# Altium footprint library ad.PcbLib: 129 footprints (part 10 of 12)
Each footprint in its own frame and in the unit in brackets; x right, y up, seen from the top. Pads: shape width x height; smd on the part's side, far side on the other; paste and mask are expansions set on the pad; w line width, h text height; cw(c..) or ccw(c..) is an arc to the next point about the centre after c.
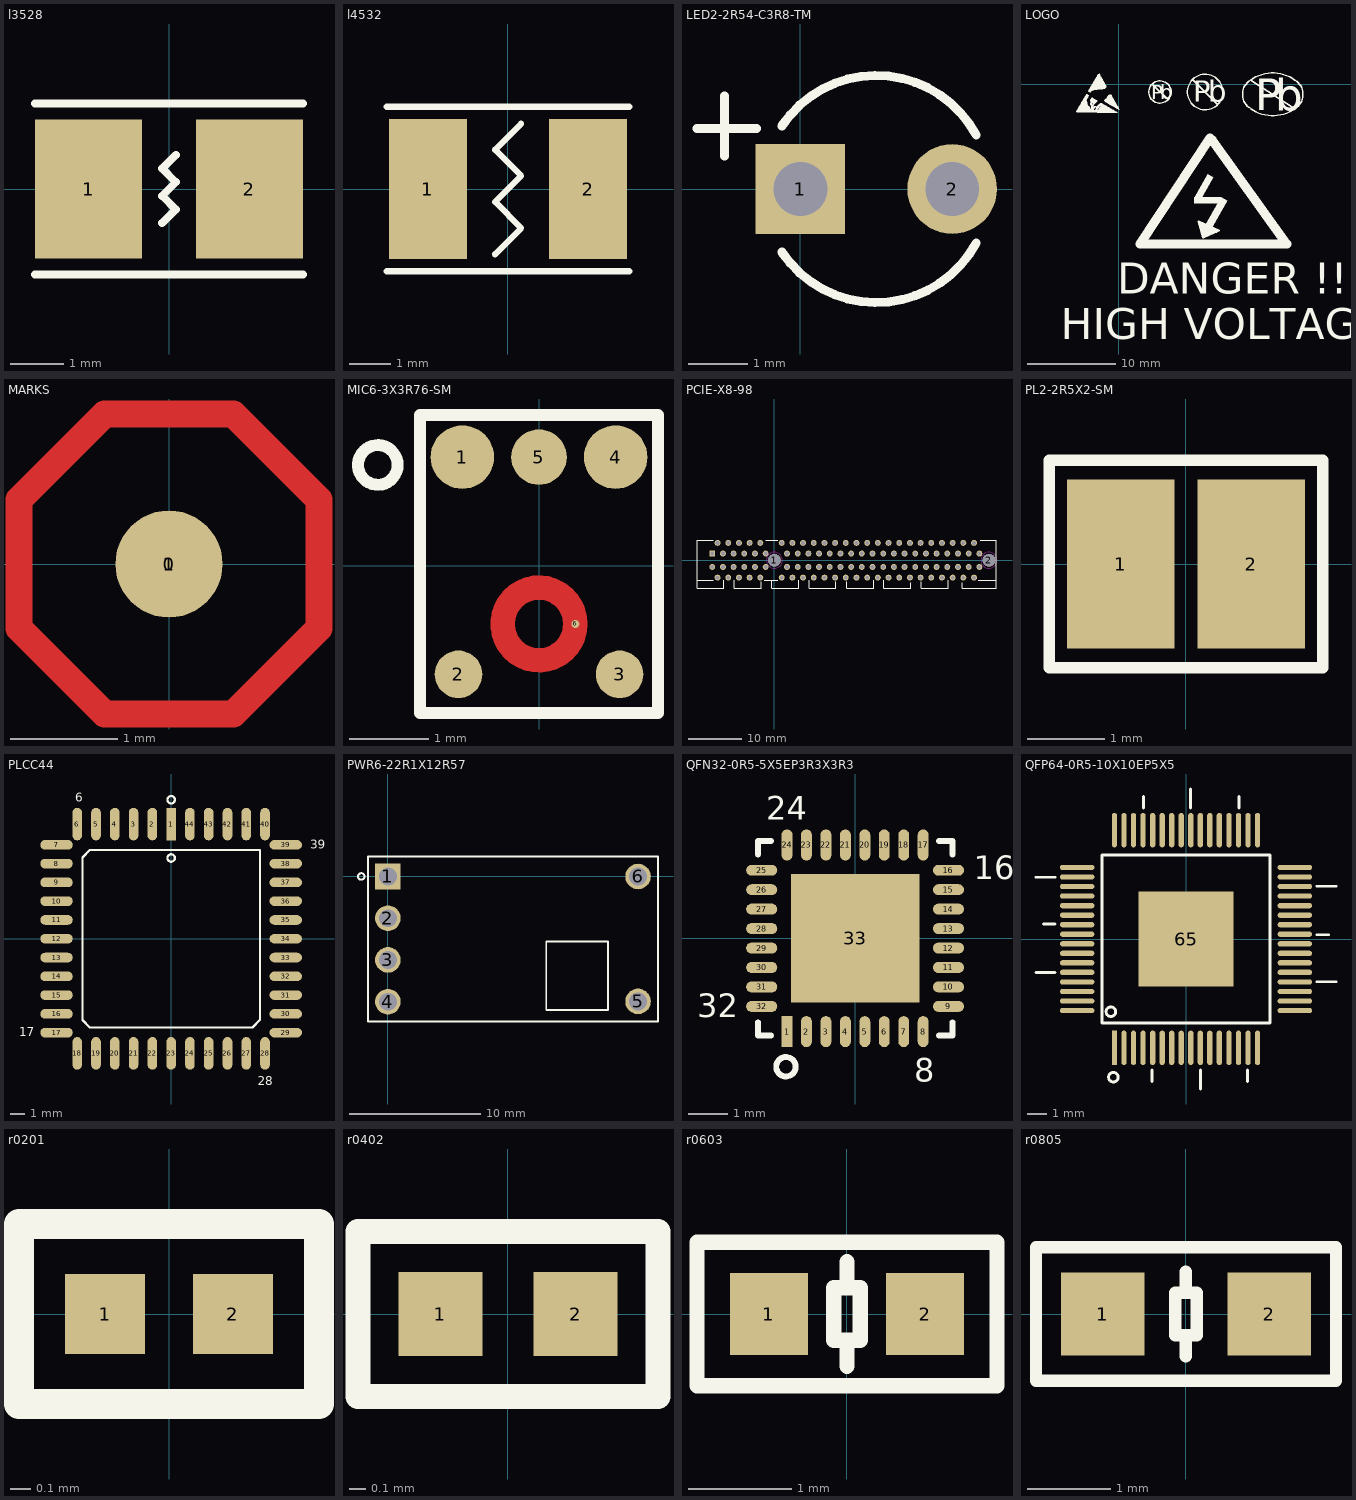
[diagram p9: the footprints below, top view; thin cyan lines are the x and y axes]

## l3528 [mm]
pads (2):
  rect 2x2.6 smd: 1(-1.5,0) 2(1.5,0)
Top Overlay:
  lines w0.15: -2.5,-1.6 2.5,-1.6 ; -2.5,1.6 2.5,1.6 ; -0.127,-0.635 0.127,-0.381 -0.127,-0.127 0.127,0.127 -0.127,0.381 0.127,0.635

## l4532 [mm]
pads (2):
  rect 1.9x3.4 smd: 1(-1.95,0) 2(1.95,0)
Top Overlay:
  lines w0.15: -2.95,-2 2.95,-2 ; -2.95,2 2.95,2 ; -0.316,-1.586 0.319,-0.951 -0.316,-0.316 0.319,0.319 -0.316,0.954 0.319,1.589

## LED2-2R54-C3R8-TM [mm]
pads (2):
  rect 1.5x1.5 hole 0.9: 1(0,0)
  round 1.5 hole 0.9: 2(2.54,0)
Top Overlay:
  lines w0.15: -1.73,1.016 -0.73,1.016 ; -1.27,0.556 -1.27,1.556 ; -0.311,-1.054 ccw(c1.27,0) 2.943,-0.901 ; -0.311,1.054 cw(c1.27,0) 2.943,0.901

## LOGO [mm]
Top Overlay:
  drawing of 850 lines, arcs and shapes, not listed
  text "b" at 4.64,-1.676 h1.6
  text "P" at 3.64,-1.676 h1.6
  text "b" at 10.07,-1.976 h2.38
  text "P" at 8.37,-1.976 h2.38
  text "b" at 4.64,-1.676 h1.6
  text "P" at 3.64,-1.676 h1.6
  text "b" at 10.07,-1.976 h2.38
  text "P" at 8.37,-1.976 h2.38
  text "b" at 17.614,-2.979 h3.58
  text "P" at 15.364,-2.931 h3.58
  text "b" at 17.614,-2.979 h3.58
  text "P" at 15.364,-2.931 h3.58
  text "DANGER !!!" at -0.152,-23.571 h3.5
  text "HIGH VOLTAGE" at -6.502,-28.651 h3.5

## MARKS [mm]
pads (2):
  round 2 on Top Solder: 0(0,0)
  round 1 smd: 1(0,0)
Top Layer:
  lines w0.254: -1.4,-0.6 -1.4,0.6 -0.6,1.4 -0.4,1.4 0.4,1.4 0.6,1.4 1.4,0.6 1.4,-0.6 0.6,-1.4 -0.6,-1.4 -1.4,-0.6

## MIC6-3X3R76-SM [mm]
pads (6):
  round 0.8 smd: 1(-0.967,1.369) 4(0.965,1.369)
  round 0.6 smd: 2(-1.015,-1.368) 3(1.015,-1.368)
  round 0.7 smd: 5(-0.001,1.369)
  round 0.1 smd: 6(0.458,-0.734)
Top Layer:
  circle w0.307: c-0.001,-0.734 r0.459
Top Overlay:
  circle w0.15: c-2.032,1.27 r0.25
  lines w0.15: -1.5,-1.859 -1.5,1.901 1.499,1.901 1.499,-1.859 -1.5,-1.859
Top Paste:
  circle w0.307: c-0.001,-0.734 r0.459
Top Solder:
  circle w0.4: c-0.001,-0.734 r0.459

## PCIE-X8-98 [mm]
pads (100):
  round 2.35 hole 2.35 unplated: 1(0,0) 2(40.15,0)
  rect 1.1x1.1 hole 0.7: A1(-11.65,1.25)
  round 1.1 hole 0.7: A2(-10.65,3.25) A3(-9.65,1.25) A4(-8.65,3.25) A5(-7.65,1.25) A6(-6.65,3.25) A7(-5.65,1.25) A8(-4.65,3.25) A9(-3.65,1.25) A10(-2.65,3.25) A11(-1.65,1.25) A12(1.35,3.25) A13(2.35,1.25) A14(3.35,3.25) A15(4.35,1.25) A16(5.35,3.25) A17(6.35,1.25) A18(7.35,3.25) A19(8.35,1.25) A20(9.35,3.25) A21(10.35,1.25) A22(11.35,3.25) A23(12.35,1.25) A24(13.35,3.25) A25(14.35,1.25) A26(15.35,3.25) A27(16.35,1.25) A28(17.35,3.25) A29(18.35,1.25) A30(19.35,3.25) A31(20.35,1.25) A32(21.35,3.25) A33(22.35,1.25) A34(23.35,3.25) A35(24.35,1.25) A36(25.35,3.25) A37(26.35,1.25) A38(27.35,3.25) A39(28.35,1.25) A40(29.35,3.25) A41(30.35,1.25) A42(31.35,3.25) A43(32.35,1.25) A44(33.35,3.25) A45(34.35,1.25) A46(35.35,3.25) A47(36.35,1.25) A48(37.35,3.25) A49(38.35,1.25) B1(-11.65,-1.25) B2(-10.65,-3.25) B3(-9.65,-1.25) B4(-8.65,-3.25) B5(-7.65,-1.25) B6(-6.65,-3.25) B7(-5.65,-1.25) B8(-4.65,-3.25) B9(-3.65,-1.25) B10(-2.65,-3.25) B11(-1.65,-1.25) B12(1.35,-3.25) B13(2.35,-1.25) B14(3.35,-3.25) B15(4.35,-1.25) B16(5.35,-3.25) B17(6.35,-1.25) B18(7.35,-3.25) B19(8.35,-1.25) B20(9.35,-3.25) B21(10.35,-1.25) B22(11.35,-3.25) B23(12.35,-1.25) B24(13.35,-3.25) B25(14.35,-1.25) B26(15.35,-3.25) B27(16.35,-1.25) B28(17.35,-3.25) B29(18.35,-1.25) B30(19.35,-3.25) B31(20.35,-1.25) B32(21.35,-3.25) B33(22.35,-1.25) B34(23.35,-3.25) B35(24.35,-1.25) B36(25.35,-3.25) B37(26.35,-1.25) B38(27.35,-3.25) B39(28.35,-1.25) B40(29.35,-3.25) B41(30.35,-1.25) B42(31.35,-3.25) B43(32.35,-1.25) B44(33.35,-3.25) B45(34.35,-1.25) B46(35.35,-3.25) B47(36.35,-1.25) B48(37.35,-3.25) B49(38.35,-1.25)
Top Overlay:
  lines w0.15: -11.43,-3.75 -14.5,-3.75 ; -11.43,3.75 -14.5,3.75 -14.5,-3.75 ; -9.5,-3.75 -9.5,-5.2 -14.5,-5.2 -14.5,-3.75 ; -7.507,-3.75 -7.507,-5.2 -2.507,-5.2 -2.507,-4.064 ; -1.905,-3.75 0.635,-3.75 ; -1.651,3.75 0.635,3.75 ; -0.492,-3.75 -0.492,-5.2 4.508,-5.2 4.508,-3.75 ; 6.477,-3.75 6.477,-5.2 11.477,-5.2 11.477,-4.064 ; 13.538,-4.064 13.538,-5.2 18.538,-5.2 18.538,-3.75 ; 20.5,-3.75 20.5,-5.2 25.5,-5.2 25.5,-4.191 ; 27.5,-4.064 27.5,-5.2 32.5,-5.2 32.5,-3.75 ; 35.179,-4.191 35.179,-5.2 41.5,-5.2 41.5,-3.75 ; 38.1,-3.75 41.5,-3.75 ; 38.481,3.75 41.5,3.75 41.5,-3.75
Bottom Overlay:
  text "B10" at -0.254,-3.429 h0.6
  text "B11" at 0.381,-2.159 h0.6
  text "B2" at -11.557,-3.429 h0.6
  text "B1" at -12.7,-1.524 h0.6
  text "B48" at 40.005,-3.429 h0.6
  text "B49" at 40.513,-2.413 h0.6
  text "A49" at 40.64,1.778 h0.6
  text "A48" at 40.132,3.048 h0.6
  text "A11" at 0.381,1.778 h0.6
  text "A10" at -0.254,2.921 h0.6
  text "A2" at -11.557,2.921 h0.6
  text "A1" at -12.827,0.889 h0.6
Keep-Out Layer:
  circle w0: c40.15,0 r1.5
  circle w0: c0,0 r1.5

## PL2-2R5X2-SM [mm]
pads (2):
  rect 1.4x2.2 smd: 1(-0.85,0) 2(0.85,0)
Top Overlay:
  lines w0.15: -1.778,-1.27 -1.778,-0.936 -1.778,1.35 -1.3,1.35 1.3,1.35 1.778,1.35 1.778,-0.936 ; -1.778,0.936 -1.778,-1.35 -1.3,-1.35 ; 1.778,0.936 1.778,-1.35 ; -1.3,-1.35 1.3,-1.35 ; -1.3,-1.35 1.3,-1.35 ; 1.3,-1.35 1.778,-1.35 ; 1.3,-1.35 1.778,-1.35

## PLCC44 [mm]
pads (44):
  rect 0.65x2.2 smd: 1(0,7.75)
  oval 0.65x2.2 smd: 2(-1.27,7.75) 3(-2.54,7.75) 4(-3.81,7.75) 5(-5.08,7.75) 6(-6.35,7.75) 18(-6.35,-7.75) 19(-5.08,-7.75) 20(-3.81,-7.75) 21(-2.54,-7.75) 22(-1.27,-7.75) 23(0,-7.75) 24(1.27,-7.75) 25(2.54,-7.75) 26(3.81,-7.75) 27(5.08,-7.75) 28(6.35,-7.75) 40(6.35,7.75) 41(5.08,7.75) 42(3.81,7.75) 43(2.54,7.75) 44(1.27,7.75)
  oval 2.2x0.65 smd: 7(-7.75,6.35) 8(-7.75,5.08) 9(-7.75,3.81) 10(-7.75,2.54) 11(-7.75,1.27) 12(-7.75,0) 13(-7.75,-1.27) 14(-7.75,-2.54) 15(-7.75,-3.81) 16(-7.75,-5.08) 17(-7.75,-6.35) 29(7.75,-6.35) 30(7.75,-5.08) 31(7.75,-3.81) 32(7.75,-2.54) 33(7.75,-1.27) 34(7.75,0) 35(7.75,1.27) 36(7.75,2.54) 37(7.75,3.81) 38(7.75,5.08) 39(7.75,6.35)
Top Overlay:
  circle w0.15: c0.004,5.461 r0.25
  circle w0.15: c0.004,9.398 r0.25
  lines w0.15: -6,-5.5 -6,5.5 -5.5,6 6,6 6,-5.5 5.5,-6 -5.5,-6 -6,-5.5
  text "17" at -10.287,-6.604 h0.6
  text "28" at 5.842,-9.906 h0.6
  text "39" at 9.398,6.096 h0.6
  text "6" at -6.477,9.271 h0.6

## PWR6-22R1X12R57 [mm]
pads (6):
  rect 1.95x1.95 hole 1.35: 1(0,0)
  round 1.95 hole 1.35: 2(0,-3.18) 3(0,-6.36) 4(0,-9.54) 5(19.06,-9.52) 6(19.06,0)
Top Overlay:
  circle w0.15: c-2.028,0 r0.25
  lines w0.15: -1.52,-11.05 20.58,-11.05 20.58,1.52 -1.52,1.52 -1.52,-11.05 ; 12.065,-10.16 12.065,-4.953 16.764,-4.953 16.764,-10.16 12.065,-10.16

## QFN32-0R5-5X5EP3R3X3R3 [mm]
pads (33):
  rect 0.28x0.8 smd: 1(-1.75,-2.4)
  oval 0.28x0.8 smd: 2(-1.25,-2.4) 3(-0.75,-2.4) 4(-0.25,-2.4) 5(0.25,-2.4) 6(0.75,-2.4) 7(1.25,-2.4) 8(1.75,-2.4) 17(1.75,2.4) 18(1.25,2.4) 19(0.75,2.4) 20(0.25,2.4) 21(-0.25,2.4) 22(-0.75,2.4) 23(-1.25,2.4) 24(-1.75,2.4)
  oval 0.8x0.28 smd: 9(2.4,-1.75) 10(2.4,-1.25) 11(2.4,-0.75) 12(2.4,-0.25) 13(2.4,0.25) 14(2.4,0.75) 15(2.4,1.25) 16(2.4,1.75) 25(-2.4,1.75) 26(-2.4,1.25) 27(-2.4,0.75) 28(-2.4,0.25) 29(-2.4,-0.25) 30(-2.4,-0.75) 31(-2.4,-1.25) 32(-2.4,-1.75)
  rect 3.3x3.3 smd: 33(0,0)
Top Overlay:
  circle w0.15: c-1.778,-3.302 r0.25
  lines w0.15: -2.5,-2.159 -2.5,-2.5 -2.159,-2.5 ; -2.5,2.159 -2.5,2.5 -2.159,2.5 ; 2.159,-2.5 2.5,-2.5 2.5,-2.159 ; 2.159,2.5 2.5,2.5 2.5,2.159
  text "8" at 1.524,-3.683 h0.6
  text "16" at 3.048,1.524 h0.6
  text "24" at -2.286,3.048 h0.6
  text "32" at -4.064,-2.032 h0.6

## QFP64-0R5-10X10EP5X5 [mm]
pads (65):
  rect 0.28x1.8 smd: 1(-3.75,-5.7)
  oval 0.28x1.8 smd: 2(-3.25,-5.7) 3(-2.75,-5.7) 4(-2.25,-5.7) 5(-1.75,-5.7) 6(-1.25,-5.7) 7(-0.75,-5.7) 8(-0.25,-5.7) 9(0.25,-5.7) 10(0.75,-5.7) 11(1.25,-5.7) 12(1.75,-5.7) 13(2.25,-5.7) 14(2.75,-5.7) 15(3.25,-5.7) 16(3.75,-5.7) 33(3.75,5.7) 34(3.25,5.7) 35(2.75,5.7) 36(2.25,5.7) 37(1.75,5.7) 38(1.25,5.7) 39(0.75,5.7) 40(0.25,5.7) 41(-0.25,5.7) 42(-0.75,5.7) 43(-1.25,5.7) 44(-1.75,5.7) 45(-2.25,5.7) 46(-2.75,5.7) 47(-3.25,5.7) 48(-3.75,5.7)
  oval 1.8x0.28 smd: 17(5.7,-3.75) 18(5.7,-3.25) 19(5.7,-2.75) 20(5.7,-2.25) 21(5.7,-1.75) 22(5.7,-1.25) 23(5.7,-0.75) 24(5.7,-0.25) 25(5.7,0.25) 26(5.7,0.75) 27(5.7,1.25) 28(5.7,1.75) 29(5.7,2.25) 30(5.7,2.75) 31(5.7,3.25) 32(5.7,3.75) 49(-5.7,3.75) 50(-5.7,3.25) 51(-5.7,2.75) 52(-5.7,2.25) 53(-5.7,1.75) 54(-5.7,1.25) 55(-5.7,0.75) 56(-5.7,0.25) 57(-5.7,-0.25) 58(-5.7,-0.75) 59(-5.7,-1.25) 60(-5.7,-1.75) 61(-5.7,-2.25) 62(-5.7,-2.75) 63(-5.7,-3.25) 64(-5.7,-3.75)
  rect 5x5 smd: 65(0,0)
Top Overlay:
  circle w0.15: c-3.937,-3.81 r0.25
  circle w0.15: c-3.806,-7.239 r0.25
  lines w0.15: -7.859,-1.762 -6.858,-1.762 ; -7.859,3.238 -6.858,3.238 ; -7.458,0.778 -6.858,0.778 ; -2.222,6.858 -2.222,7.458 ; -1.778,-7.458 -1.778,-6.858 ; 0.238,6.858 0.238,7.859 ; 0.762,-7.859 0.762,-6.858 ; 2.778,6.858 2.778,7.458 ; 3.222,-7.458 3.222,-6.858 ; 6.858,-2.238 7.859,-2.238 ; 6.858,0.222 7.458,0.222 ; 6.858,2.762 7.859,2.762 ; -4.4,-4.4 -4.4,4.4 4.4,4.4 4.4,-4.4 -4.4,-4.4

## r0201 [mm]
pads (2):
  rect 0.4x0.4 smd: 1(-0.32,0) 2(0.32,0)
Top Overlay:
  lines w0.15: -0.75,-0.45 0.75,-0.45 0.75,0.45 -0.75,0.45 -0.75,-0.45

## r0402 [mm]
pads (2):
  rect 0.51x0.51 smd: 1(-0.41,0) 2(0.41,0)
Top Overlay:
  lines w0.15: -0.91,-0.5 0.91,-0.5 0.91,0.5 -0.91,0.5 -0.91,-0.5

## r0603 [mm]
pads (2):
  rect 0.76x0.8 smd: 1(-0.76,0) 2(0.76,0)
Top Overlay:
  lines w0.15: 0,-0.508 0,-0.316 ; 0,0.316 0,0.508 ; -1.46,-0.7 1.46,-0.7 1.46,0.7 -1.46,0.7 -1.46,-0.7 ; -0.127,-0.254 -0.127,0.254 0.127,0.254 0.127,-0.254 -0.127,-0.254

## r0805 [mm]
pads (2):
  rect 1x1 smd: 1(-1,0) 2(1,0)
Top Overlay:
  lines w0.15: 0,-0.508 0,-0.316 ; 0,0.316 0,0.508 ; -1.8,-0.8 1.8,-0.8 1.8,0.8 -1.8,0.8 -1.8,-0.8 ; -0.127,-0.254 0.127,-0.254 0.127,0.254 -0.127,0.254 -0.127,-0.254